# EAGLE library part PAM8403 (library 0_Rpi3_RevA)
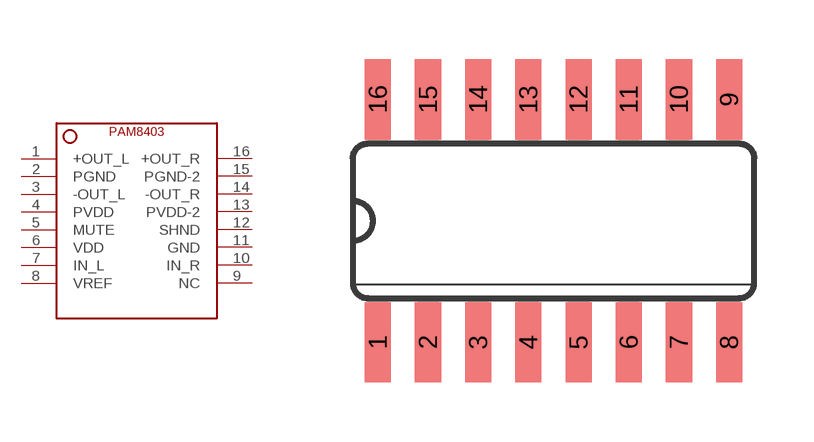
[diagram p2: symbol with the pads of SOP16; footprint SOP16]

Designator prefix -

## PAM8403  [SOP16]
1  +OUT_L
2  PGND
3  -OUT_L
4  PVDD
5  MUTE
6  VDD
7  IN_L
8  VREF
9  NC
10  IN_R
11  GND
12  SHND
13  PVDD-2
14  -OUT_R
15  PGND-2
16  +OUT_R

## Footprint SOP16 (pad centres in mm)
smd 0.66 x 2.032: 1 1.016,-1.041; 2 2.286,-1.041; 3 3.556,-1.041; 4 4.826,-1.041; 5 6.096,-1.041; 6 7.366,-1.041; 7 8.636,-1.041; 8 9.906,-1.041; 9 9.906,5.105; 10 8.636,5.105; 11 7.366,5.105; 12 6.096,5.105; 13 4.826,5.105; 14 3.556,5.105; 15 2.286,5.105; 16 1.016,5.105